# Altium footprint library IRM-01.PcbLib: 1 footprints
Each footprint in its own frame and in the unit in brackets; x right, y up, seen from the top. Pads: shape width x height; smd on the part's side, far side on the other; paste and mask are expansions set on the pad; w line width, h text height; cw(c..) or ccw(c..) is an arc to the next point about the centre after c.
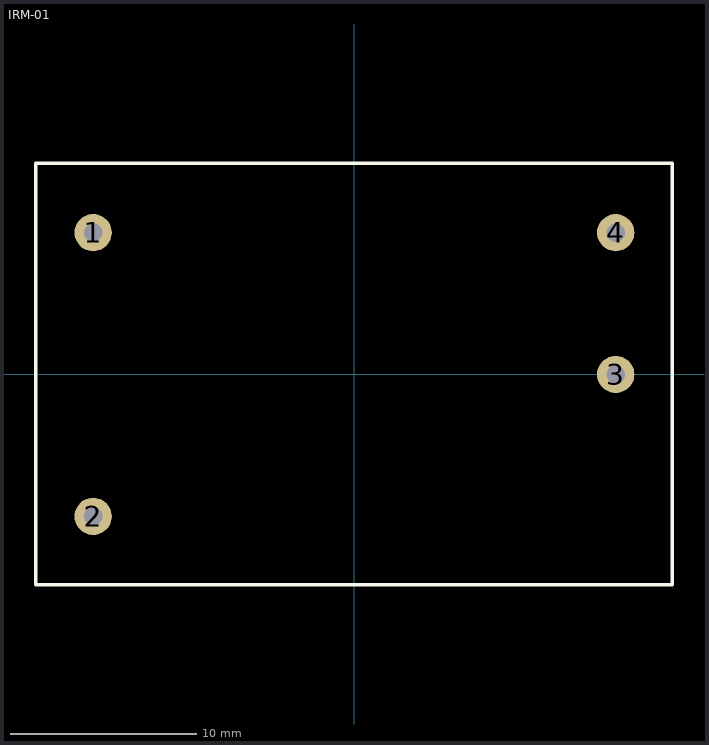
[diagram p0: the footprint, top view; thin cyan lines are the x and y axes]

## IRM-01 [mm]
pads (4):
  round 2 hole 1: 1(-14,7.6) 2(-14,-7.6) 3(14,0) 4(14,7.6)
Top Overlay:
  lines w0.2: -17.075,-11.275 17.025,-11.275 17.025,11.325 -17.075,11.325 -17.075,-11.275
3D body "User Library-Mean_well_IRM-01.STEP": height 15.2, standoff -6.3, extent -16.85,-11.1 16.85,11.1